# Altium schematic symbol library DIO-Schottky_STPS8L30B-TR.SchLib: 1 symbol
Pins are listed as number, name and electrical type; pins without a type are passive.

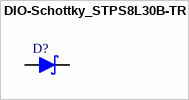
[diagram p0: symbol DIO-Schottky_STPS8L30B-TR]

## DIO-Schottky_STPS8L30B-TR
designator D?  (value not drawn)
pins: A, K, NC hidden